# EAGLE library part FM24W256-GTR_LCSC (library lcsc_parts)
Description: 256Kbit 2.7V~5.5V 1MHz I2C SOIC-8 Memory RoHS Manufacturer: Infineon/CYPRESS MPN: FM24W256-GTR LCSC Part: C66020 Category: Memory Datasheet: https://datasheet.lcsc.com/datasheet/pdf/270a5fb7a43143b6a3b8bc1f619dc0d0.pdf?productCode=C66020
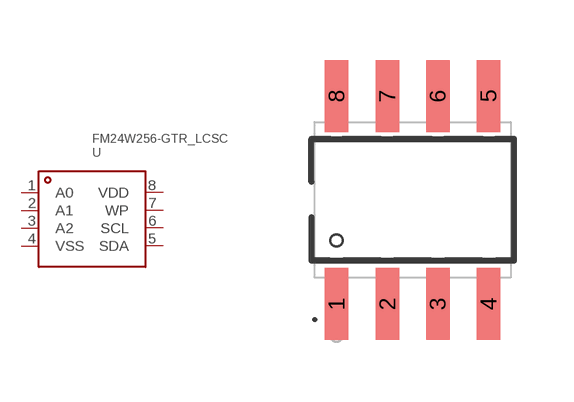
[diagram p1: symbol with the pads of SOIC-8_L4.9-W3.9-P1.27-LS6.0-BL; footprint SOIC-8_L4.9-W3.9-P1.27-LS6.0-BL]

Designator prefix U

## FM24W256-GTR_LCSC (CATEGORY: Memory; CLOCK_FREQUENCY: 1MHz; CURRENT_SUPPLY: 400uA; DATASHEET: https://datasheet.lcsc.com/datasheet/pdf/270a5fb7a43143b6a3b8bc1f619dc0d0.pdf?productCode=C66020; DATA_RETENTION_TDR_YEAR: 151 years; DESCRIPTION: 256Kbit 2.7V~5.5V 1MHz I2C SOIC-8 Memory RoHS; INTERFACE: I2C; LCSC_PART: C66020; LCSC_STOCK: 10803; MANUFACTURER: Infineon/CYPRESS; MEMORY_SIZE: 256Kbit; MPN: FM24W256-GTR; OPERATING_TEMPERATURE: -40℃~+85℃; PARTNO: FM24W256-GTR; PRICING_1000: $2.5886/unit @ 1000; PRICING_50: $3.1497/unit @ 50; PROGRAM_ERASE_CYCLES: 100,000,000,000,000 Cycles; STANDBY_SUPPLY_CURRENT: 15uA; VOLTAGE_SUPPLY: 2.7V~5.5V)  [SOIC-8_L4.9-W3.9-P1.27-LS6.0-BL]
1  A0
2  A1
3  A2
4  VSS
5  SDA
6  SCL
7  WP
8  VDD

## Footprint SOIC-8_L4.9-W3.9-P1.27-LS6.0-BL (pad centres in mm)
smd 0.588 x 1.8: 1 -1.9,-2.6; 2 -0.63,-2.6; 3 0.63,-2.6; 4 1.9,-2.6; 5 1.9,2.6; 6 0.63,2.6; 7 -0.63,2.6; 8 -1.9,2.6